# Altium schematic symbol library ERJU03J474V.SchLib: 1 symbol
Pins are listed as number, name and electrical type; pins without a type are passive.

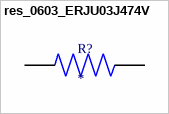
[diagram p0: symbol res_0603_ERJU03J474V]

## res_0603_ERJU03J474V
designator R?
0603 Anti-Sulfurated; MF: Panasonic; MP: ERJU03J474V; SnapEDA_Link: https://www.snapeda.com/parts/ERJU03J474V/Panasonic/view-part/?ref=snap; Package: 1608-2 Panasonic; Value: *; Check_prices: https://www.snapeda.com/parts/ERJU03J474V/Panasonic/view-part/?ref=eda
footprint RES_ERJU03J474V
pins: 1, 2